# EAGLE library part MCP16252 (library my_library)
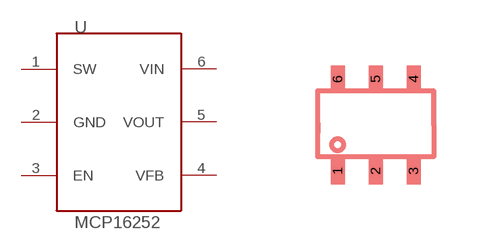
[diagram p0: symbol with the pads of MCP16252; footprint MCP16252]

Designator prefix -

## MCP16252  [MCP16252]
1  SW
2  GND
3  EN
4  VFB
5  VOUT
6  VIN

## Footprint MCP16252 (pad centres in mm)
smd 0.35 x 0.675: 1 -0.95,-1.15; 2 0,-1.15; 3 0.95,-1.15; 4 0.95,1.15; 5 0,1.15; 6 -0.95,1.15